# Altium integrated library HT3.96.IntLib: 14 symbols
Pins are listed as number, name and electrical type; pins without a type are passive.

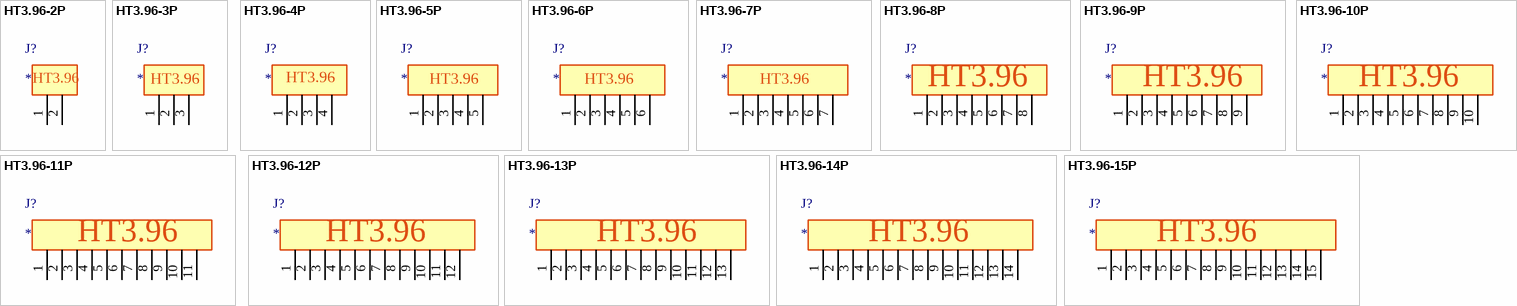
[diagram p0: symbols HT3.96-2P to HT3.96-15P]

## HT3.96-2P
designator J?
footprint HT3.96-2P
footprint HT3.96-2P-ORG
footprint HT3.96W-2P
footprint HT3.96W-2P-ORG
footprint Model Name (Model Description)
pins: 1, 2
text: HT3.96

## HT3.96-3P
designator J?
footprint HT3.96-3P
footprint HT3.96-3P-ORG
footprint HT3.96W-3P
footprint HT3.96W-3P-ORG
pins: 1, 2, 3
text: HT3.96

## HT3.96-4P
designator J?
footprint HT3.96-4P
footprint HT3.96-4P-ORG
footprint HT3.96W-4P
footprint HT3.96W-4P-ORG
pins: 1, 2, 3, 4
text: HT3.96

## HT3.96-5P
designator J?
footprint HT3.96-5P
footprint HT3.96-5P-ORG
footprint HT3.96W-5P
footprint HT3.96W-5P-ORG
pins: 1, 2, 3, 4, 5
text: HT3.96

## HT3.96-6P
designator J?
footprint HT3.96-6P (HT3.96立插端子)
footprint HT3.96-6P-ORG
footprint HT3.96W-6P
footprint HT3.96W-6P-ORG
pins: 1, 2, 3, 4, 5, 6
text: HT3.96

## HT3.96-7P
designator J?
footprint HT3.96-7P
footprint HT3.96-7P-ORG
footprint HT3.96W-7P
footprint HT3.96W-7P-ORG
pins: 1, 2, 3, 4, 5, 6, 7
text: HT3.96

## HT3.96-8P
designator J?
footprint HT3.96-8P
footprint HT3.96-8P-ORG
footprint HT3.96W-8P-ORG
footprint HT3.96W-8P
pins: 1, 2, 3, 4, 5, 6, 7, 8
text: HT3.96

## HT3.96-9P
designator J?
footprint HT3.96-9P
footprint HT3.96-9P-ORG
footprint HT3.96W-9P
footprint HT3.96W-9P-ORG
pins: 1, 2, 3, 4, 5, 6, 7, 8, 9
text: HT3.96

## HT3.96-10P
designator J?
footprint HT3.96-10P
footprint HT3.96-10P-ORG
footprint HT3.96W-10P-ORG
footprint HT3.96W-10P
pins: 1, 2, 3, 4, 5, 6, 7, 8, 9, 10
text: HT3.96

## HT3.96-11P
designator J?
footprint HT3.96-11P
footprint HT3.96-11P-ORG
footprint HT3.96W-11P-ORG
footprint HT3.96W-11P
pins: 1, 2, 3, 4, 5, 6, 7, 8, 9, 10, 11
text: HT3.96

## HT3.96-12P
designator J?
footprint HT3.96-12P
footprint HT3.96-12P-ORG
footprint HT3.96W-12P
footprint HT3.96W-12P-ORG
pins: 1, 2, 3, 4, 5, 6, 7, 8, 9, 10, 11, 12
text: HT3.96

## HT3.96-13P
designator J?
footprint HT3.96-13P
footprint HT3.96-13P-ORG
footprint HT3.96W-13P
footprint HT3.96W-13P-ORG (HT3.96卧插端子)
pins: 1, 2, 3, 4, 5, 6, 7, 8, 9, 10, 11, 12, 13
text: HT3.96

## HT3.96-14P
designator J?
footprint HT3.96-14P
footprint HT3.96-14P-ORG
footprint HT3.96W-14P
footprint HT3.96W-14P-ORG
pins: 1, 2, 3, 4, 5, 6, 7, 8, 9, 10, 11, 12, 13, 14
text: HT3.96

## HT3.96-15P
designator J?
footprint HT3.96-15P
footprint HT3.96-15P-ORG
footprint HT3.96W-15P-ORG
footprint HT3.96W-15P
pins: 1, 2, 3, 4, 5, 6, 7, 8, 9, 10, 11, 12, 13, 14, 15
text: HT3.96